# Altium footprint library 42820-3214.PcbLib: 1 footprints
Each footprint in its own frame and in the unit in brackets; x right, y up, seen from the top. Pads: shape width x height; smd on the part's side, far side on the other; paste and mask are expansions set on the pad; w line width, h text height; cw(c..) or ccw(c..) is an arc to the next point about the centre after c.
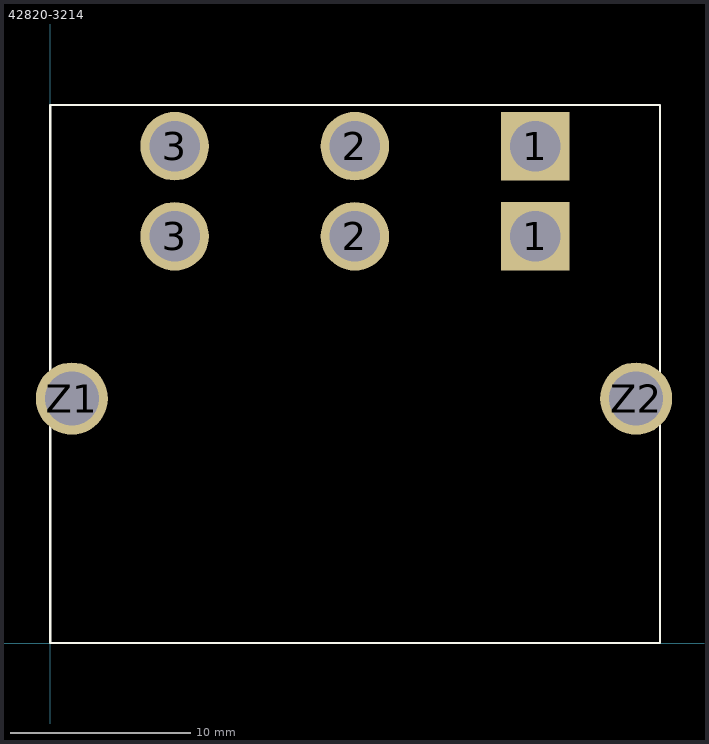
[diagram p0: the footprint, top view; thin cyan lines are the x and y axes]

## 42820-3214 [mm] "10.00mm Pitch Mini-Fit Sr.™ Header, Single Row, Right Angle, 1.57mm PCB Thickness, Silver (Ag) Plating, 3 Circuits"
height 10
pads (8):
  rect 3.8x3.8 hole 2.8: 1(26.9,22.56) 1(26.9,27.56)
  round 3.8 hole 2.8: 2(16.9,22.56) 2(16.9,27.56) 3(6.9,22.56) 3(6.9,27.56)
  round 4 hole 3: Z1(1.2,13.56) Z2(32.5,13.56)
Top Overlay:
  lines w0.127: 0,0 33.82,0 33.82,29.845 0,29.845 0,0
3D body "428203213.stp": height 14, standoff -3.55, extent 0,0 33.82,29.1